# EAGLE library part TSL2560 (library Cool_Electricity)
TSL2560 Ambient Light Sensor
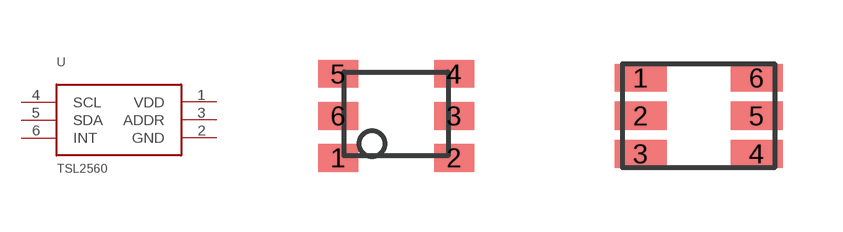
[diagram p6: symbol with the pads of CL6_TAOS; footprints CL6_TAOS, T_TAOS]

Designator prefix U

## TSL2560CL  [CL6_TAOS]
1  VDD
2  GND
3  ADDR
4  SCL
5  SDA
6  INT

## TSL2560T  [T_TAOS]
1  VDD
2  ADDR
3  GND
4  SCL
5  INT
6  SDA

## Footprint CL6_TAOS (pad centres in mm)
smd 1 x 0.7: 1 -1.45,-1.05; 2 1.45,-1.05; 3 1.45,0; 4 1.45,1.05; 5 -1.45,1.05; 6 -1.45,0

## Footprint T_TAOS (pad centres in mm)
smd 1.3 x 0.7: 1 -1.45,0.95; 2 -1.45,0; 3 -1.45,-0.95; 4 1.45,-0.95; 5 1.45,0; 6 1.45,0.95